# Altium integrated library Analog Devices Data Converters Analog-to-Digital Converters.IntLib: 2400 symbols (part 305 of 338)
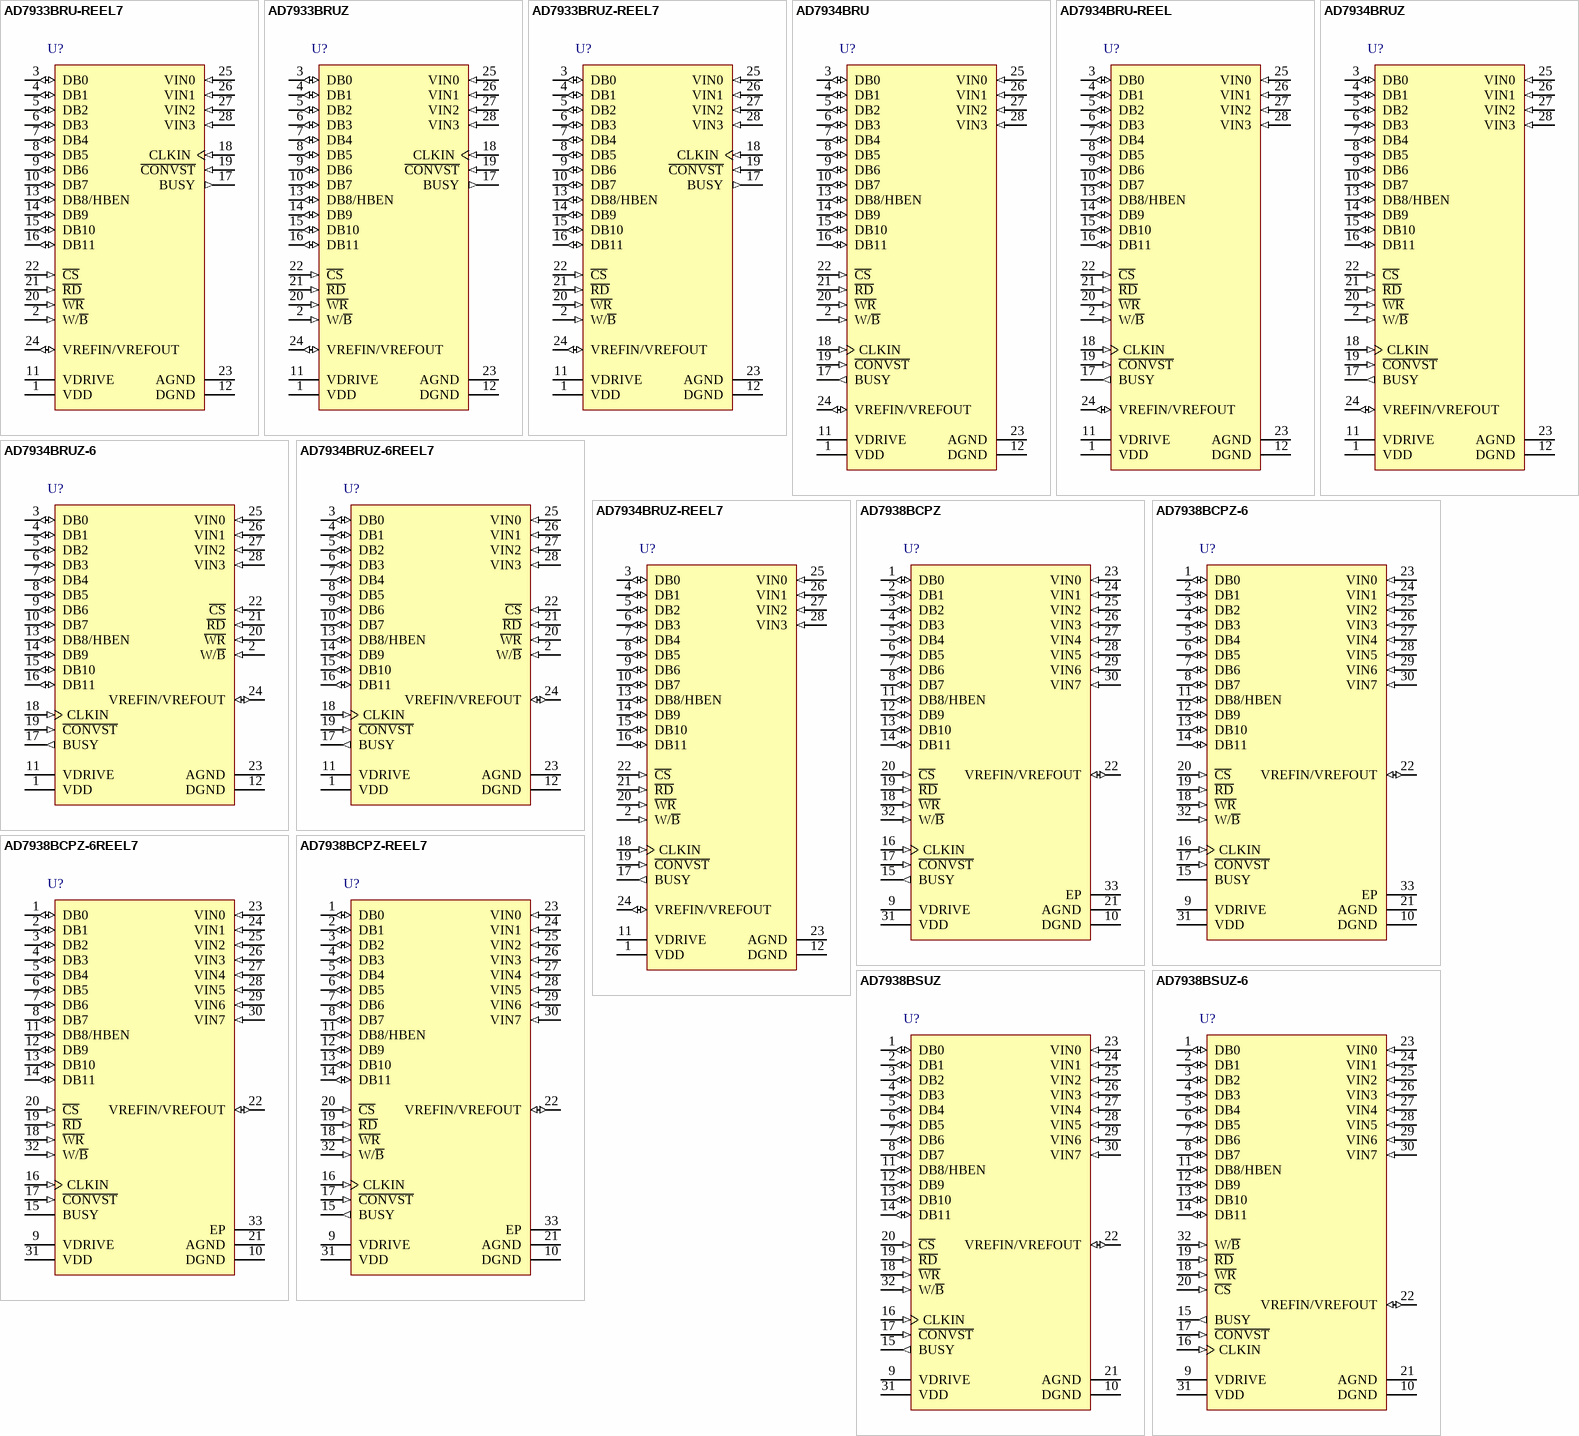
[diagram p321: symbols AD7933BRU-REEL7 to AD7938BSUZ-6]

## AD7934BRUZ-REEL7
designator U?
Quad 12-Bit Analog-to-Digital Converter with Byte, Parallel Interface and Sequencer, 1.5MSPS, -40 to +85 degC, RU-28, Pb-Free, Reel; Part Number: AD7934; Manufacturer: Analog Devices; Resolution (Bits): 12; Channels: 4; Throughput Rate (SPS): 1.5M; DatasheetVersion: Rev.B; PackageVersion: 2005; PackageReference: RU-28; PackageDescription: 28-Lead Thin Shrink Small Outline Package [TSSOP]; Interface: Byte, Par; RoHS: Y; Packing: Reel; Mounting Technology: Surface Mount; Code_JEDEC: MO-153-AE; ComponentLink1Description: Manufacturer URL; ComponentLink1URL: http://www.analog.com/en/index.html; ComponentLink2Description: Datasheet; ComponentLink2URL: http://www.analog.com/static/imported-files/data_sheets/AD7933_7934.pdf; ComponentLink3Description: Package Specification; ComponentLink3URL: http://www.analog.com/static/imported-files/packages/249854663RU_28.pdf; ComponentLink4Description: Product URL; ComponentLink4URL: http://www.analog.com/en/analog-to-digital-converters/ad-converters/ad7934/products/product.html
footprint RU-28_N (TSOP, 28-Leads, Body 9.7x4.4mm, Pitch 0.65mm, IPC Medium Density)
footprint RU-28_L (TSOP, 28-Leads, Body 9.7x4.4mm, Pitch 0.65mm, IPC High Density)
footprint RU-28_M (TSOP, 28-Leads, Body 9.7x4.4mm, Pitch 0.65mm, IPC Low Density)
pins: 1 VDD (power) "Power Supply Input. The VDD range for the AD7933/AD7934 is from 2.7 V to 5.25 V. Decouple the supply to AGND with a 0.1 uF capacitor and a 10 uF tantalum capacitor.", 2 W/~{B} (in) "Word/Byte Input. When this input is logic high, word transfer mode is enabled, and data is transferred to and from the AD7933/AD7934 in 10-bit words on Pin DB2 to Pin DB11, or in 12-bit words on Pin DB0 to Pin DB11. When (See Datasheet)", 3 DB0 (io) "Data Bit 0 to Data Bit 7. Three-state parallel digital I/O pins that provide the conversion result and allow programming of the control register. These pins are controlled by C\S\, R\D\, and W\R\. The logic high/low voltage (See Datasheet)", 4 DB1 (io) "Data Bit 0 to Data Bit 7. Three-state parallel digital I/O pins that provide the conversion result and allow programming of the control register. These pins are controlled by C\S\, R\D\, and W\R\. The logic high/low voltage (See Datasheet)", 5 DB2 (io) "Data Bit 0 to Data Bit 7. Three-state parallel digital I/O pins that provide the conversion result and allow programming of the control register. These pins are controlled by C\S\, R\D\, and W\R\. The logic high/low voltage (See Datasheet)", 6 DB3 (io) "Data Bit 0 to Data Bit 7. Three-state parallel digital I/O pins that provide the conversion result and allow programming of the control register. These pins are controlled by C\S\, R\D\, and W\R\. The logic high/low voltage (See Datasheet)", 7 DB4 (io) "Data Bit 0 to Data Bit 7. Three-state parallel digital I/O pins that provide the conversion result and allow programming of the control register. These pins are controlled by C\S\, R\D\, and W\R\. The logic high/low voltage (See Datasheet)", 8 DB5 (io) "Data Bit 0 to Data Bit 7. Three-state parallel digital I/O pins that provide the conversion result and allow programming of the control register. These pins are controlled by C\S\, R\D\, and W\R\. The logic high/low voltage (See Datasheet)", 9 DB6 (io) "Data Bit 0 to Data Bit 7. Three-state parallel digital I/O pins that provide the conversion result and allow programming of the control register. These pins are controlled by C\S\, R\D\, and W\R\. The logic high/low voltage (See Datasheet)", 10 DB7 (io) "Data Bit 0 to Data Bit 7. Three-state parallel digital I/O pins that provide the conversion result and allow programming of the control register. These pins are controlled by C\S\, R\D\, and W\R\. The logic high/low voltage (See Datasheet)", 11 VDRIVE (power) "Logic Power Supply Input. The voltage supplied at this pin determines at what voltage the parallel interface of the AD7933/AD7934 operates. Decouple this pin to DGND. The voltage at this pin may be different to that at VDD (See Datasheet)", 12 DGND (power) "Digital Ground. This is the ground reference point for all digital circuitry on the AD7933/AD7934. Connect this pin to the DGND plane of a system. The DGND and AGND voltages should ideally be at the same potential and must (See Datasheet)", 13 DB8/HBEN (io) "Data Bit 8/High Byte Enable. When W/B\ is high, this pin acts as Data Bit 8, a three-state I/O pin that is controlled by C\S\, R\D\, and W\R\. When W/B\ is low, this pin acts as the high byte enable pin. When HBEN is low, (See Datasheet)", 14 DB9 (io) "Data Bit 9 to Data Bit 11. Three-state parallel digital I/O pins that provide the conversion result and also allow the control register to be programmed in word mode. These pins are controlled by C\S\, R\D\, and W\R\. The (See Datasheet)", 15 DB10 (io) "Data Bit 9 to Data Bit 11. Three-state parallel digital I/O pins that provide the conversion result and also allow the control register to be programmed in word mode. These pins are controlled by C\S\, R\D\, and W\R\. The (See Datasheet)", 16 DB11 (io) "Data Bit 9 to Data Bit 11. Three-state parallel digital I/O pins that provide the conversion result and also allow the control register to be programmed in word mode. These pins are controlled by C\S\, R\D\, and W\R\. The (See Datasheet)", 17 BUSY (out) "Busy Output. This is the logic output indicating the status of the conversion. The BUSY output goes high following the falling edge of C\O\N\V\S\T\ and stays high for the duration of the conversion. Once the conversion is (See Datasheet)", 18 CLKIN (in) "Master Clock Input. The clock source for the conversion process is applied to this pin. Conversion time for the AD7933/AD7934 takes 13 clock cycles + t2. The frequency of the master clock input therefore determines the (See Datasheet)", 19 ~{CONVST} (in) "Conversion Start Input. A falling edge on C\O\N\V\S\T\ initiates a conversion. The track-and-hold goes from track to hold mode on the falling edge of C\O\N\V\S\T\, and the conversion process is initiated at this point. (See Datasheet)", 20 ~{WR} (in) "Write Input. Active low logic input used in conjunction with C\S\ to write data to the control register.", 21 ~{RD} (in) "Read Input. Active low logic input used in conjunction with C\S\ to access the conversion result. The conversion result is placed on the data bus following the falling edge of R\D\ read while C\S\ is low.", 22 ~{CS} (in) "Chip Select. Active low logic input used in conjunction with R\D\ and W\R\ to read conversion data or write data to the control register.", 23 AGND (power) "Analog Ground. This is the ground reference point for all analog circuitry on the AD7933/AD7934. All analog input signals and any external reference signal should be referred to this AGND voltage. The AGND and DGND voltages (See Datasheet)", 24 VREFIN/VREFOUT (io) "Reference Input/Output. This pin is connected to the internal reference and is the reference source for the ADC. The nominal internal reference voltage is 2.5 V, and this appears at this pin. It is recommended to decouple (See Datasheet)", 25 VIN0 (in) "Analog Input 0 to Analog Input 3. Four analog input channels that are multiplexed into the on-chip track-and-hold. The analog inputs can be programmed as four single-ended inputs, two fully differential pairs, or two pseudo (See Datasheet)", 26 VIN1 (in) "Analog Input 0 to Analog Input 3. Four analog input channels that are multiplexed into the on-chip track-and-hold. The analog inputs can be programmed as four single-ended inputs, two fully differential pairs, or two pseudo (See Datasheet)", 27 VIN2 (in) "Analog Input 0 to Analog Input 3. Four analog input channels that are multiplexed into the on-chip track-and-hold. The analog inputs can be programmed as four single-ended inputs, two fully differential pairs, or two pseudo (See Datasheet)", 28 VIN3 (in) "Analog Input 0 to Analog Input 3. Four analog input channels that are multiplexed into the on-chip track-and-hold. The analog inputs can be programmed as four single-ended inputs, two fully differential pairs, or two pseudo (See Datasheet)"

## AD7938BCPZ
designator U?
Octal 12-Bit Analog-to-Digital Converter with Byte, Parallel Interface and Sequencer, 1.5MSPS, -40 to +85 degC, CP-32-2, Pb-Free, Tray; Part Number: AD7938; Manufacturer: Analog Devices; Resolution (Bits): 12; Channels: 8; Throughput Rate (SPS): 1.5M; DatasheetVersion: Rev.C; PackageVersion: Jan-2005; PackageReference: CP-32-2; PackageDescription: 32-Lead Lead Frame Chip Scale Package [LFCSP_VQ] 5 x 5 mm Body, Very Thin Quad; Interface: Byte, Par; RoHS: Y; Packing: Tray; Mounting Technology: Surface Mount; Code_JEDEC: MO-220-VHHD-2; ComponentLink1Description: Manufacturer URL; ComponentLink1URL: http://www.analog.com/en/index.html; ComponentLink2Description: Datasheet; ComponentLink2URL: http://www.analog.com/static/imported-files/data_sheets/AD7938_7939.pdf; ComponentLink3Description: Package Specification; ComponentLink3URL: http://www.analog.com/static/imported-files/packages/414143737956480539664569CP_32_2.pdf; ComponentLink4Description: Product URL; ComponentLink4URL: http://www.analog.com/en/analog-to-digital-converters/ad-converters/ad7938/products/product.html
footprint CP-32-2_N (QFN, 32-Leads, Body 5x5mm, Pitch 0.5mm, Thermal Pad 3.1x3.1mm, IPC Medium Density)
footprint CP-32-2_L (QFN, 32-Leads, Body 5x5mm, Pitch 0.5mm, Thermal Pad 3.1x3.1mm, IPC High Density)
footprint CP-32-2_M (QFN, 32-Leads, Body 5x5mm, Pitch 0.5mm, Thermal Pad 3.1x3.1mm, IPC Low Density)
pins: 1 DB0 (io) "Data Bit 0 . Three-state parallel digital I/O pins that provide the conversion result and allow the control and shadow registers to be programmed. These pins are controlled by C\S\, R\D\, and W\R\. The logic high/low voltage (See Datasheet)", 2 DB1 (io) "Data Bit 1. Three-state parallel digital I/O pins that provide the conversion result and allow the control and shadow registers to be programmed. These pins are controlled by C\S\, R\D\, and W\R\. The logic high/low voltage (See Datasheet)", 3 DB2 (io) "Data Bit 2. Three-state parallel digital I/O pins that provide the conversion result and allow the control and shadow registers to be programmed. These pins are controlled by C\S\, R\D\, and W\R\. The logic high/low voltage (See Datasheet)", 4 DB3 (io) "Data Bit 3. Three-state parallel digital I/O pins that provide the conversion result and allow the control and shadow registers to be programmed. These pins are controlled by C\S\, R\D\, and W\R\. The logic high/low voltage (See Datasheet)", 5 DB4 (io) "Data Bit 4. Three-state parallel digital I/O pins that provide the conversion result and allow the control and shadow registers to be programmed. These pins are controlled by C\S\, R\D\, and W\R\. The logic high/low voltage (See Datasheet)", 6 DB5 (io) "Data Bit 5. Three-state parallel digital I/O pins that provide the conversion result and allow the control and shadow registers to be programmed. These pins are controlled by C\S\, R\D\, and W\R\. The logic high/low voltage (See Datasheet)", 7 DB6 (io) "Data Bit 6. Three-state parallel digital I/O pins that provide the conversion result and allow the control and shadow registers to be programmed. These pins are controlled by C\S\, R\D\, and W\R\. The logic high/low voltage (See Datasheet)", 8 DB7 (io) "Data Bit 7. Three-state parallel digital I/O pins that provide the conversion result and allow the control and shadow registers to be programmed. These pins are controlled by C\S\, R\D\, and W\R\. The logic high/low voltage (See Datasheet)", 9 VDRIVE (power) "Logic Power Supply Input. The voltage supplied at this pin determines at what voltage the parallel interface of the AD7938/AD7939 operates. This pin should be decoupled to DGND. The voltage at this pin can be different to (See Datasheet)", 10 DGND (power) "Digital Ground. This is the ground reference point for all digital circuitry on the AD7938/AD7939. This pin should connect to the DGND plane of a system. The DGND and AGND voltages should ideally be at the same potential and (See Datasheet)", 11 DB8/HBEN (io) "Data Bit 8/High Byte Enable. When W/B\ is high, this pin acts as Data Bit 8, a three-state I/O pin that is controlled by C\S\, R\D\, and W\R\. When W/B\ is low, this pin acts as the high byte enable pin. When HBEN is low, (See Datasheet)", 12 DB9 (io) "Data Bit 9 . Three-state parallel digital I/O pins that provide the conversion result and allow the control and shadow registers to be programmed in word mode. These pins are controlled by C\S\, R\D\, and W\R\. The logic (See Datasheet)", 13 DB10 (io) "Data Bit 10. Three-state parallel digital I/O pins that provide the conversion result and allow the control and shadow registers to be programmed in word mode. These pins are controlled by C\S\, R\D\, and W\R\. The logic (See Datasheet)", 14 DB11 (io) "Data Bit 11. Three-state parallel digital I/O pins that provide the conversion result and allow the control and shadow registers to be programmed in word mode. These pins are controlled by C\S\, R\D\, and W\R\. The logic (See Datasheet)", 15 BUSY (out) "Busy Output. Logic output that indicates the status of the conversion. The BUSY output goes high following the falling edge of CONVST and stays high for the duration of the conversion. Once the conversion is complete and the (See Datasheet)", 16 CLKIN (in) "Master Clock Input. The clock source for the conversion process is applied to this pin. Conversion time for the AD7938/AD7939 takes 13 clock cycles + t2. The frequency of the master clock input therefore determines the (See Datasheet)", 17 ~{CONVST} (in) "Conversion Start Input. A falling edge on C\O\N\V\S\T\ is used to initiate a conversion. The track-and-hold goes from trackmode to hold mode on the falling edge of C\O\N\V\S\T\ and the conversion process is initiated at this (See Datasheet)", 18 ~{WR} (in) "Write Input. Active low logic input used in conjunction with C\S\ to write data to the internal registers.", 19 ~{RD} (in) "Read Input. Active low logic input used in conjunction with C\S\ to access the conversion result. The conversion result is placed on the data bus following the falling edge of R\D\ read while C\S\ is low.", 20 ~{CS} (in) "Chip Select. Active low logic input used in conjunction with R\D\ and W\R\ to read conversion data or to write data to the internal registers.", 21 AGND (power) "Analog Ground. This is the ground reference point for all analog circuitry on the AD7938/AD7939. All analog input signals and any external reference signal should be referred to this AGND voltage. The AGND and DGND voltages (See Datasheet)", 22 VREFIN/VREFOUT (io) "Reference Input/Output. This pin is connected to the internal reference and is the reference source for the ADC. The nominal internal reference voltage is 2.5 V, which appears at this pin. It is recommended that this pin is (See Datasheet)", 23 VIN0 (in) "Analog Input 0. Eight analog input channels that are multiplexed into the on-chip track-andhold. The analog inputs can be programmed to be eight single-ended inputs, four fully differential pairs, four pseudo differential (See Datasheet)", 24 VIN1 (in) "Analog Input 1. Eight analog input channels that are multiplexed into the on-chip track-andhold. The analog inputs can be programmed to be eight single-ended inputs, four fully differential pairs, four pseudo differential (See Datasheet)", 25 VIN2 (in) "Analog Input 2. Eight analog input channels that are multiplexed into the on-chip track-andhold. The analog inputs can be programmed to be eight single-ended inputs, four fully differential pairs, four pseudo differential (See Datasheet)", 26 VIN3 (in) "Analog Input 3. Eight analog input channels that are multiplexed into the on-chip track-andhold. The analog inputs can be programmed to be eight single-ended inputs, four fully differential pairs, four pseudo differential (See Datasheet)", 27 VIN4 (in) "Analog Input 4. Eight analog input channels that are multiplexed into the on-chip track-andhold. The analog inputs can be programmed to be eight single-ended inputs, four fully differential pairs, four pseudo differential (See Datasheet)", 28 VIN5 (in) "Analog Input 5. Eight analog input channels that are multiplexed into the on-chip track-andhold. The analog inputs can be programmed to be eight single-ended inputs, four fully differential pairs, four pseudo differential (See Datasheet)", 29 VIN6 (in) "Analog Input 6. Eight analog input channels that are multiplexed into the on-chip track-andhold. The analog inputs can be programmed to be eight single-ended inputs, four fully differential pairs, four pseudo differential (See Datasheet)", 30 VIN7 (in) "Analog Input 7. Eight analog input channels that are multiplexed into the on-chip track-andhold. The analog inputs can be programmed to be eight single-ended inputs, four fully differential pairs, four pseudo differential (See Datasheet)", 31 VDD (power) "Power Supply Input. The VDD range for the AD7938/AD7939 is 2.7 V to 5.25 V. The supply should be decoupled to AGND with a 0.1 µF capacitor and a 10 µF tantalum capacitor.", 32 W/~{B} (in) "Word/Byte Input. When this input is logic high, data is transferred to and from the AD7938/AD7939 in 12-bit/10-bit words on the DB0/DB2 to DB11 pins. When this pin is logic low, byte transfer mode is enabled. Data and the (See Datasheet)", 33 EP (power) "Exposed Pad. The exposed pad is located on the underside of the package. Connect the EPAD to the ground plane of the PCB using multiple vias."

## AD7938BCPZ-6
designator U?
Octal 12-Bit Analog-to-Digital Converter with Parallel Interface and Sequencer, 625KSPS, -40 to +85 degC, CP-32-2, Pb-Free, Tray; Part Number: AD7938-6; Manufacturer: Analog Devices; Resolution (Bits): 12; Channels: 8; Throughput Rate (SPS): 625K; Interface: Par; DatasheetVersion: Rev.C; PackageVersion: Jan-2005; PackageReference: CP-32-2; PackageDescription: 32-Lead Lead Frame Chip Scale Package [LFCSP_VQ] 5 x 5 mm Body, Very Thin Quad; RoHS: Y; Packing: Tray; Mounting Technology: Surface Mount; Code_JEDEC: MO-220-VHHD-2; ComponentLink1Description: Manufacturer URL; ComponentLink1URL: http://www.analog.com/en/index.html; ComponentLink2Description: Datasheet; ComponentLink2URL: http://www.analog.com/static/imported-files/data_sheets/AD7938-6.pdf; ComponentLink3Description: Package Specification; ComponentLink3URL: http://www.analog.com/static/imported-files/packages/414143737956480539664569CP_32_2.pdf; ComponentLink4Description: Product URL; ComponentLink4URL: http://www.analog.com/en/analog-to-digital-converters/ad-converters/ad7938-6/products/product.html
footprint CP-32-2_N (QFN, 32-Leads, Body 5x5mm, Pitch 0.5mm, Thermal Pad 3.1x3.1mm, IPC Medium Density)
footprint CP-32-2_L (QFN, 32-Leads, Body 5x5mm, Pitch 0.5mm, Thermal Pad 3.1x3.1mm, IPC High Density)
footprint CP-32-2_M (QFN, 32-Leads, Body 5x5mm, Pitch 0.5mm, Thermal Pad 3.1x3.1mm, IPC Low Density)
pins: 1 DB0 (io) "Data Bit 0. Three-state parallel digital I/O pins that provide the conversion result and allow the control and shadow registers to be programmed. These pins are controlled by C\S\, R\D\, and W\R\. The logic high/low voltage (See Datasheet)", 2 DB1 (io) "Data Bit 1. Three-state parallel digital I/O pins that provide the conversion result and allow the control and shadow registers to be programmed. These pins are controlled by C\S\, R\D\, and W\R\. The logic high/low voltage (See Datasheet)", 3 DB2 (io) "Data Bit 2. Three-state parallel digital I/O pins that provide the conversion result and allow the control and shadow registers to be programmed. These pins are controlled by C\S\, R\D\, and W\R\. The logic high/low voltage (See Datasheet)", 4 DB3 (io) "Data Bit 3. Three-state parallel digital I/O pins that provide the conversion result and allow the control and shadow registers to be programmed. These pins are controlled by C\S\, R\D\, and W\R\. The logic high/low voltage (See Datasheet)", 5 DB4 (io) "Data Bit 4. Three-state parallel digital I/O pins that provide the conversion result and allow the control and shadow registers to be programmed. These pins are controlled by C\S\, R\D\, and W\R\. The logic high/low voltage (See Datasheet)", 6 DB5 (io) "Data Bit 5. Three-state parallel digital I/O pins that provide the conversion result and allow the control and shadow registers to be programmed. These pins are controlled by C\S\, R\D\, and W\R\. The logic high/low voltage (See Datasheet)", 7 DB6 (io) "Data Bit 6. Three-state parallel digital I/O pins that provide the conversion result and allow the control and shadow registers to be programmed. These pins are controlled by C\S\, R\D\, and W\R\. The logic high/low voltage (See Datasheet)", 8 DB7 (io) "Data Bit 7. Three-state parallel digital I/O pins that provide the conversion result and allow the control and shadow registers to be programmed. These pins are controlled by C\S\, R\D\, and W\R\. The logic high/low voltage (See Datasheet)", 9 VDRIVE (power) "Logic Power Supply Input. The voltage supplied at this pin determines at what voltage the parallel interface of the AD7938-6 operates. This pin should be decoupled to DGND. The voltage at this pin may be different to that at (See Datasheet)", 10 DGND (power) "Digital Ground. This is the ground reference point for all digital circuitry on the AD7938-6. This pin should connect to the DGND plane of a system. The DGND and AGND voltages should ideally be at the same potential and must (See Datasheet)", 11 DB8/HBEN (io) "Data Bit 8/High Byte Enable. When W/B\ is high, this pin acts as Data Bit 8, a three-state I/O pin that is controlled by C\S\, R\D\, and W\R\. When W/B\ is low, this pin acts as the high byte enable pin. When HBEN is low, (See Datasheet)", 12 DB9 (io) "Data Bit 9. Three-state parallel digital I/O pins that provide the conversion result and allow the control and shadow registers to be programmed in word mode. These pins are controlled by C\S\, R\D\, and W\R\. The logic (See Datasheet)", 13 DB10 (io) "Data Bit 10. Three-state parallel digital I/O pins that provide the conversion result and allow the control and shadow registers to be programmed in word mode. These pins are controlled by C\S\, R\D\, and W\R\. The logic (See Datasheet)", 14 DB11 (io) "Data Bit 11. Three-state parallel digital I/O pins that provide the conversion result and allow the control and shadow registers to be programmed in word mode. These pins are controlled by C\S\, R\D\, and W\R\. The logic (See Datasheet)", 15 BUSY (hiz) "Busy Output. Logic output indicating the status of the conversion. The BUSY output goes high following the falling edge of C\O\N\V\S\T\ and stays high for the duration of the conversion. Once the conversion is complete and (See Datasheet)", 16 CLKIN (in) "Master Clock Input. The clock source for the conversion process is applied to this pin. Conversion time for the AD7938-6 takes 13 clock cycles + t2. The frequency of the master clock input therefore determines the conversion (See Datasheet)", 17 ~{CONVST} (in) "Conversion Start Input. A falling edge on C\O\N\V\S\T\ is used to initiate a conversion. The track-and-hold goes from track mode to hold mode on the falling edge of C\O\N\V\S\T\ and the conversion process is initiated at (See Datasheet)", 18 ~{WR} (in) "Write Input. Active low logic input used in conjunction with C\S\ to write data to the internal registers.", 19 ~{RD} (in) "Read Input. Active low logic input used in conjunction with C\S\ to access the conversion result. The conversion result is placed on the data bus following the falling edge of R\D\ read while C\S\ is low.", 20 ~{CS} (in) "Chip Select. Active low logic input used in conjunction with R\D\ and W\R\ to read conversion data or to write data to the internal registers.", 21 AGND (power) "Analog Ground. This is the ground reference point for all analog circuitry on the AD7938-6. All analog input signals and any external reference signal should be referred to this AGND voltage. The AGND and DGND voltages (See Datasheet)", 22 VREFIN/VREFOUT (io) "Reference Input/Output. This pin is connected to the internal reference and is the reference source for the ADC. The nominal internal reference voltage is 2.5 V and this appears at this pin. It is recommended that this pin (See Datasheet)", 23 VIN0 (in) "Analog Input 0. Eight analog input channels that are multiplexed into the on-chip track-and-hold. The analog inputs can be programmed to be eight single-ended inputs, four fully differential pairs, four pseudo differential (See Datasheet)", 24 VIN1 (in) "Analog Input 1. Eight analog input channels that are multiplexed into the on-chip track-and-hold. The analog inputs can be programmed to be eight single-ended inputs, four fully differential pairs, four pseudo differential (See Datasheet)", 25 VIN2 (in) "Analog Input 2. Eight analog input channels that are multiplexed into the on-chip track-and-hold. The analog inputs can be programmed to be eight single-ended inputs, four fully differential pairs, four pseudo differential (See Datasheet)", 26 VIN3 (in) "Analog Input 3. Eight analog input channels that are multiplexed into the on-chip track-and-hold. The analog inputs can be programmed to be eight single-ended inputs, four fully differential pairs, four pseudo differential (See Datasheet)", 27 VIN4 (in) "Analog Input 4. Eight analog input channels that are multiplexed into the on-chip track-and-hold. The analog inputs can be programmed to be eight single-ended inputs, four fully differential pairs, four pseudo differential (See Datasheet)", 28 VIN5 (in) "Analog Input 5. Eight analog input channels that are multiplexed into the on-chip track-and-hold. The analog inputs can be programmed to be eight single-ended inputs, four fully differential pairs, four pseudo differential (See Datasheet)", 29 VIN6 (in) "Analog Input 6. Eight analog input channels that are multiplexed into the on-chip track-and-hold. The analog inputs can be programmed to be eight single-ended inputs, four fully differential pairs, four pseudo differential (See Datasheet)", 30 VIN7 (in) "Analog Input 7. Eight analog input channels that are multiplexed into the on-chip track-and-hold. The analog inputs can be programmed to be eight single-ended inputs, four fully differential pairs, four pseudo differential (See Datasheet)", 31 VDD (power) "Power Supply Input. The VDD range for the AD7938-6 is 2.7 V to 5.25 V. The supply should be decoupled to AGND with a 0.1 uF capacitor and a 10 uF tantalum capacitor.", 32 W/~{B} (in) "Word/Byte Input. When this input is logic high, data is transferred to and from the AD7938-6 in 12-bit words on Pin DB0 to Pin DB11. When this pin is logic low, byte transfer mode is enabled. Data and the channel ID are (See Datasheet)", 33 EP (power) "Exposed Pad. The exposed pad is located on the underside of the package. Connect the EPAD to the ground plane of the PCB using multiple vias."

## AD7938BCPZ-6REEL7
designator U?
Octal 12-Bit Analog-to-Digital Converter with Parallel Interface and Sequencer, 625KSPS, -40 to +85 degC, CP-32-2, Pb-Free, Reel; Part Number: AD7938-6; Manufacturer: Analog Devices; Resolution (Bits): 12; Channels: 8; Throughput Rate (SPS): 625K; Interface: Par; DatasheetVersion: Rev.C; PackageVersion: Jan-2005; PackageReference: CP-32-2; PackageDescription: 32-Lead Lead Frame Chip Scale Package [LFCSP_VQ] 5 x 5 mm Body, Very Thin Quad; RoHS: Y; Packing: Reel; Mounting Technology: Surface Mount; Code_JEDEC: MO-220-VHHD-2; ComponentLink1Description: Manufacturer URL; ComponentLink1URL: http://www.analog.com/en/index.html; ComponentLink2Description: Datasheet; ComponentLink2URL: http://www.analog.com/static/imported-files/data_sheets/AD7938-6.pdf; ComponentLink3Description: Package Specification; ComponentLink3URL: http://www.analog.com/static/imported-files/packages/414143737956480539664569CP_32_2.pdf; ComponentLink4Description: Product URL; ComponentLink4URL: http://www.analog.com/en/analog-to-digital-converters/ad-converters/ad7938-6/products/product.html
footprint CP-32-2_N (QFN, 32-Leads, Body 5x5mm, Pitch 0.5mm, Thermal Pad 3.1x3.1mm, IPC Medium Density)
footprint CP-32-2_L (QFN, 32-Leads, Body 5x5mm, Pitch 0.5mm, Thermal Pad 3.1x3.1mm, IPC High Density)
footprint CP-32-2_M (QFN, 32-Leads, Body 5x5mm, Pitch 0.5mm, Thermal Pad 3.1x3.1mm, IPC Low Density)
pins: 1 DB0 (io) "Data Bit 0. Three-state parallel digital I/O pins that provide the conversion result and allow the control and shadow registers to be programmed. These pins are controlled by C\S\, R\D\, and W\R\. The logic high/low voltage (See Datasheet)", 2 DB1 (io) "Data Bit 1. Three-state parallel digital I/O pins that provide the conversion result and allow the control and shadow registers to be programmed. These pins are controlled by C\S\, R\D\, and W\R\. The logic high/low voltage (See Datasheet)", 3 DB2 (io) "Data Bit 2. Three-state parallel digital I/O pins that provide the conversion result and allow the control and shadow registers to be programmed. These pins are controlled by C\S\, R\D\, and W\R\. The logic high/low voltage (See Datasheet)", 4 DB3 (io) "Data Bit 3. Three-state parallel digital I/O pins that provide the conversion result and allow the control and shadow registers to be programmed. These pins are controlled by C\S\, R\D\, and W\R\. The logic high/low voltage (See Datasheet)", 5 DB4 (io) "Data Bit 4. Three-state parallel digital I/O pins that provide the conversion result and allow the control and shadow registers to be programmed. These pins are controlled by C\S\, R\D\, and W\R\. The logic high/low voltage (See Datasheet)", 6 DB5 (io) "Data Bit 5. Three-state parallel digital I/O pins that provide the conversion result and allow the control and shadow registers to be programmed. These pins are controlled by C\S\, R\D\, and W\R\. The logic high/low voltage (See Datasheet)", 7 DB6 (io) "Data Bit 6. Three-state parallel digital I/O pins that provide the conversion result and allow the control and shadow registers to be programmed. These pins are controlled by C\S\, R\D\, and W\R\. The logic high/low voltage (See Datasheet)", 8 DB7 (io) "Data Bit 7. Three-state parallel digital I/O pins that provide the conversion result and allow the control and shadow registers to be programmed. These pins are controlled by C\S\, R\D\, and W\R\. The logic high/low voltage (See Datasheet)", 9 VDRIVE (power) "Logic Power Supply Input. The voltage supplied at this pin determines at what voltage the parallel interface of the AD7938-6 operates. This pin should be decoupled to DGND. The voltage at this pin may be different to that at (See Datasheet)", 10 DGND (power) "Digital Ground. This is the ground reference point for all digital circuitry on the AD7938-6. This pin should connect to the DGND plane of a system. The DGND and AGND voltages should ideally be at the same potential and must (See Datasheet)", 11 DB8/HBEN (io) "Data Bit 8/High Byte Enable. When W/B\ is high, this pin acts as Data Bit 8, a three-state I/O pin that is controlled by C\S\, R\D\, and W\R\. When W/B\ is low, this pin acts as the high byte enable pin. When HBEN is low, (See Datasheet)", 12 DB9 (io) "Data Bit 9. Three-state parallel digital I/O pins that provide the conversion result and allow the control and shadow registers to be programmed in word mode. These pins are controlled by C\S\, R\D\, and W\R\. The logic (See Datasheet)", 13 DB10 (io) "Data Bit 10. Three-state parallel digital I/O pins that provide the conversion result and allow the control and shadow registers to be programmed in word mode. These pins are controlled by C\S\, R\D\, and W\R\. The logic (See Datasheet)", 14 DB11 (io) "Data Bit 11. Three-state parallel digital I/O pins that provide the conversion result and allow the control and shadow registers to be programmed in word mode. These pins are controlled by C\S\, R\D\, and W\R\. The logic (See Datasheet)", 15 BUSY (hiz) "Busy Output. Logic output indicating the status of the conversion. The BUSY output goes high following the falling edge of C\O\N\V\S\T\ and stays high for the duration of the conversion. Once the conversion is complete and (See Datasheet)", 16 CLKIN (in) "Master Clock Input. The clock source for the conversion process is applied to this pin. Conversion time for the AD7938-6 takes 13 clock cycles + t2. The frequency of the master clock input therefore determines the conversion (See Datasheet)", 17 ~{CONVST} (in) "Conversion Start Input. A falling edge on C\O\N\V\S\T\ is used to initiate a conversion. The track-and-hold goes from track mode to hold mode on the falling edge of C\O\N\V\S\T\ and the conversion process is initiated at (See Datasheet)", 18 ~{WR} (in) "Write Input. Active low logic input used in conjunction with C\S\ to write data to the internal registers.", 19 ~{RD} (in) "Read Input. Active low logic input used in conjunction with C\S\ to access the conversion result. The conversion result is placed on the data bus following the falling edge of R\D\ read while C\S\ is low.", 20 ~{CS} (in) "Chip Select. Active low logic input used in conjunction with R\D\ and W\R\ to read conversion data or to write data to the internal registers.", 21 AGND (power) "Analog Ground. This is the ground reference point for all analog circuitry on the AD7938-6. All analog input signals and any external reference signal should be referred to this AGND voltage. The AGND and DGND voltages (See Datasheet)", 22 VREFIN/VREFOUT (io) "Reference Input/Output. This pin is connected to the internal reference and is the reference source for the ADC. The nominal internal reference voltage is 2.5 V and this appears at this pin. It is recommended that this pin (See Datasheet)", 23 VIN0 (in) "Analog Input 0. Eight analog input channels that are multiplexed into the on-chip track-and-hold. The analog inputs can be programmed to be eight single-ended inputs, four fully differential pairs, four pseudo differential (See Datasheet)", 24 VIN1 (in) "Analog Input 1. Eight analog input channels that are multiplexed into the on-chip track-and-hold. The analog inputs can be programmed to be eight single-ended inputs, four fully differential pairs, four pseudo differential (See Datasheet)", 25 VIN2 (in) "Analog Input 2. Eight analog input channels that are multiplexed into the on-chip track-and-hold. The analog inputs can be programmed to be eight single-ended inputs, four fully differential pairs, four pseudo differential (See Datasheet)", 26 VIN3 (in) "Analog Input 3. Eight analog input channels that are multiplexed into the on-chip track-and-hold. The analog inputs can be programmed to be eight single-ended inputs, four fully differential pairs, four pseudo differential (See Datasheet)", 27 VIN4 (in) "Analog Input 4. Eight analog input channels that are multiplexed into the on-chip track-and-hold. The analog inputs can be programmed to be eight single-ended inputs, four fully differential pairs, four pseudo differential (See Datasheet)", 28 VIN5 (in) "Analog Input 5. Eight analog input channels that are multiplexed into the on-chip track-and-hold. The analog inputs can be programmed to be eight single-ended inputs, four fully differential pairs, four pseudo differential (See Datasheet)", 29 VIN6 (in) "Analog Input 6. Eight analog input channels that are multiplexed into the on-chip track-and-hold. The analog inputs can be programmed to be eight single-ended inputs, four fully differential pairs, four pseudo differential (See Datasheet)", 30 VIN7 (in) "Analog Input 7. Eight analog input channels that are multiplexed into the on-chip track-and-hold. The analog inputs can be programmed to be eight single-ended inputs, four fully differential pairs, four pseudo differential (See Datasheet)", 31 VDD (power) "Power Supply Input. The VDD range for the AD7938-6 is 2.7 V to 5.25 V. The supply should be decoupled to AGND with a 0.1 uF capacitor and a 10 uF tantalum capacitor.", 32 W/~{B} (in) "Word/Byte Input. When this input is logic high, data is transferred to and from the AD7938-6 in 12-bit words on Pin DB0 to Pin DB11. When this pin is logic low, byte transfer mode is enabled. Data and the channel ID are (See Datasheet)", 33 EP (power) "Exposed Pad. The exposed pad is located on the underside of the package. Connect the EPAD to the ground plane of the PCB using multiple vias."

## AD7938BCPZ-REEL7
designator U?
Octal 12-Bit Analog-to-Digital Converter with Byte, Parallel Interface and Sequencer, 1.5MSPS, -40 to +85 degC, CP-32-2, Pb-Free, Reel; Part Number: AD7938; Manufacturer: Analog Devices; Resolution (Bits): 12; Channels: 8; Throughput Rate (SPS): 1.5M; DatasheetVersion: Rev.C; PackageVersion: Jan-2005; PackageReference: CP-32-2; PackageDescription: 32-Lead Lead Frame Chip Scale Package [LFCSP_VQ] 5 x 5 mm Body, Very Thin Quad; Interface: Byte, Par; RoHS: Y; Packing: Reel; Mounting Technology: Surface Mount; Code_JEDEC: MO-220-VHHD-2; ComponentLink1Description: Manufacturer URL; ComponentLink1URL: http://www.analog.com/en/index.html; ComponentLink2Description: Datasheet; ComponentLink2URL: http://www.analog.com/static/imported-files/data_sheets/AD7938_7939.pdf; ComponentLink3Description: Package Specification; ComponentLink3URL: http://www.analog.com/static/imported-files/packages/414143737956480539664569CP_32_2.pdf; ComponentLink4Description: Product URL; ComponentLink4URL: http://www.analog.com/en/analog-to-digital-converters/ad-converters/ad7938/products/product.html
footprint CP-32-2_N (QFN, 32-Leads, Body 5x5mm, Pitch 0.5mm, Thermal Pad 3.1x3.1mm, IPC Medium Density)
footprint CP-32-2_L (QFN, 32-Leads, Body 5x5mm, Pitch 0.5mm, Thermal Pad 3.1x3.1mm, IPC High Density)
footprint CP-32-2_M (QFN, 32-Leads, Body 5x5mm, Pitch 0.5mm, Thermal Pad 3.1x3.1mm, IPC Low Density)
pins: 1 DB0 (io) "Data Bit 0 . Three-state parallel digital I/O pins that provide the conversion result and allow the control and shadow registers to be programmed. These pins are controlled by C\S\, R\D\, and W\R\. The logic high/low voltage (See Datasheet)", 2 DB1 (io) "Data Bit 1. Three-state parallel digital I/O pins that provide the conversion result and allow the control and shadow registers to be programmed. These pins are controlled by C\S\, R\D\, and W\R\. The logic high/low voltage (See Datasheet)", 3 DB2 (io) "Data Bit 2. Three-state parallel digital I/O pins that provide the conversion result and allow the control and shadow registers to be programmed. These pins are controlled by C\S\, R\D\, and W\R\. The logic high/low voltage (See Datasheet)", 4 DB3 (io) "Data Bit 3. Three-state parallel digital I/O pins that provide the conversion result and allow the control and shadow registers to be programmed. These pins are controlled by C\S\, R\D\, and W\R\. The logic high/low voltage (See Datasheet)", 5 DB4 (io) "Data Bit 4. Three-state parallel digital I/O pins that provide the conversion result and allow the control and shadow registers to be programmed. These pins are controlled by C\S\, R\D\, and W\R\. The logic high/low voltage (See Datasheet)", 6 DB5 (io) "Data Bit 5. Three-state parallel digital I/O pins that provide the conversion result and allow the control and shadow registers to be programmed. These pins are controlled by C\S\, R\D\, and W\R\. The logic high/low voltage (See Datasheet)", 7 DB6 (io) "Data Bit 6. Three-state parallel digital I/O pins that provide the conversion result and allow the control and shadow registers to be programmed. These pins are controlled by C\S\, R\D\, and W\R\. The logic high/low voltage (See Datasheet)", 8 DB7 (io) "Data Bit 7. Three-state parallel digital I/O pins that provide the conversion result and allow the control and shadow registers to be programmed. These pins are controlled by C\S\, R\D\, and W\R\. The logic high/low voltage (See Datasheet)", 9 VDRIVE (power) "Logic Power Supply Input. The voltage supplied at this pin determines at what voltage the parallel interface of the AD7938/AD7939 operates. This pin should be decoupled to DGND. The voltage at this pin can be different to (See Datasheet)", 10 DGND (power) "Digital Ground. This is the ground reference point for all digital circuitry on the AD7938/AD7939. This pin should connect to the DGND plane of a system. The DGND and AGND voltages should ideally be at the same potential and (See Datasheet)", 11 DB8/HBEN (io) "Data Bit 8/High Byte Enable. When W/B\ is high, this pin acts as Data Bit 8, a three-state I/O pin that is controlled by C\S\, R\D\, and W\R\. When W/B\ is low, this pin acts as the high byte enable pin. When HBEN is low, (See Datasheet)", 12 DB9 (io) "Data Bit 9 . Three-state parallel digital I/O pins that provide the conversion result and allow the control and shadow registers to be programmed in word mode. These pins are controlled by C\S\, R\D\, and W\R\. The logic (See Datasheet)", 13 DB10 (io) "Data Bit 10. Three-state parallel digital I/O pins that provide the conversion result and allow the control and shadow registers to be programmed in word mode. These pins are controlled by C\S\, R\D\, and W\R\. The logic (See Datasheet)", 14 DB11 (io) "Data Bit 11. Three-state parallel digital I/O pins that provide the conversion result and allow the control and shadow registers to be programmed in word mode. These pins are controlled by C\S\, R\D\, and W\R\. The logic (See Datasheet)", 15 BUSY (out) "Busy Output. Logic output that indicates the status of the conversion. The BUSY output goes high following the falling edge of CONVST and stays high for the duration of the conversion. Once the conversion is complete and the (See Datasheet)", 16 CLKIN (in) "Master Clock Input. The clock source for the conversion process is applied to this pin. Conversion time for the AD7938/AD7939 takes 13 clock cycles + t2. The frequency of the master clock input therefore determines the (See Datasheet)", 17 ~{CONVST} (in) "Conversion Start Input. A falling edge on C\O\N\V\S\T\ is used to initiate a conversion. The track-and-hold goes from trackmode to hold mode on the falling edge of C\O\N\V\S\T\ and the conversion process is initiated at this (See Datasheet)", 18 ~{WR} (in) "Write Input. Active low logic input used in conjunction with C\S\ to write data to the internal registers.", 19 ~{RD} (in) "Read Input. Active low logic input used in conjunction with C\S\ to access the conversion result. The conversion result is placed on the data bus following the falling edge of R\D\ read while C\S\ is low.", 20 ~{CS} (in) "Chip Select. Active low logic input used in conjunction with R\D\ and W\R\ to read conversion data or to write data to the internal registers.", 21 AGND (power) "Analog Ground. This is the ground reference point for all analog circuitry on the AD7938/AD7939. All analog input signals and any external reference signal should be referred to this AGND voltage. The AGND and DGND voltages (See Datasheet)", 22 VREFIN/VREFOUT (io) "Reference Input/Output. This pin is connected to the internal reference and is the reference source for the ADC. The nominal internal reference voltage is 2.5 V, which appears at this pin. It is recommended that this pin is (See Datasheet)", 23 VIN0 (in) "Analog Input 0. Eight analog input channels that are multiplexed into the on-chip track-andhold. The analog inputs can be programmed to be eight single-ended inputs, four fully differential pairs, four pseudo differential (See Datasheet)", 24 VIN1 (in) "Analog Input 1. Eight analog input channels that are multiplexed into the on-chip track-andhold. The analog inputs can be programmed to be eight single-ended inputs, four fully differential pairs, four pseudo differential (See Datasheet)", 25 VIN2 (in) "Analog Input 2. Eight analog input channels that are multiplexed into the on-chip track-andhold. The analog inputs can be programmed to be eight single-ended inputs, four fully differential pairs, four pseudo differential (See Datasheet)", 26 VIN3 (in) "Analog Input 3. Eight analog input channels that are multiplexed into the on-chip track-andhold. The analog inputs can be programmed to be eight single-ended inputs, four fully differential pairs, four pseudo differential (See Datasheet)", 27 VIN4 (in) "Analog Input 4. Eight analog input channels that are multiplexed into the on-chip track-andhold. The analog inputs can be programmed to be eight single-ended inputs, four fully differential pairs, four pseudo differential (See Datasheet)", 28 VIN5 (in) "Analog Input 5. Eight analog input channels that are multiplexed into the on-chip track-andhold. The analog inputs can be programmed to be eight single-ended inputs, four fully differential pairs, four pseudo differential (See Datasheet)", 29 VIN6 (in) "Analog Input 6. Eight analog input channels that are multiplexed into the on-chip track-andhold. The analog inputs can be programmed to be eight single-ended inputs, four fully differential pairs, four pseudo differential (See Datasheet)", 30 VIN7 (in) "Analog Input 7. Eight analog input channels that are multiplexed into the on-chip track-andhold. The analog inputs can be programmed to be eight single-ended inputs, four fully differential pairs, four pseudo differential (See Datasheet)", 31 VDD (power) "Power Supply Input. The VDD range for the AD7938/AD7939 is 2.7 V to 5.25 V. The supply should be decoupled to AGND with a 0.1 µF capacitor and a 10 µF tantalum capacitor.", 32 W/~{B} (in) "Word/Byte Input. When this input is logic high, data is transferred to and from the AD7938/AD7939 in 12-bit/10-bit words on the DB0/DB2 to DB11 pins. When this pin is logic low, byte transfer mode is enabled. Data and the (See Datasheet)", 33 EP (power) "Exposed Pad. The exposed pad is located on the underside of the package. Connect the EPAD to the ground plane of the PCB using multiple vias."